# Altium schematic symbol library 36903205S.SchLib: 1 symbol
Pins are listed as number, name and electrical type; pins without a type are passive.

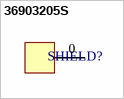
[diagram p0: symbol 36903205S]

## 36903205S
designator SHIELD?  (value not drawn)
pins: 0 GND (power)